# EAGLE library part CL-SB-23B-01T (library CL-SB-23B-01T)
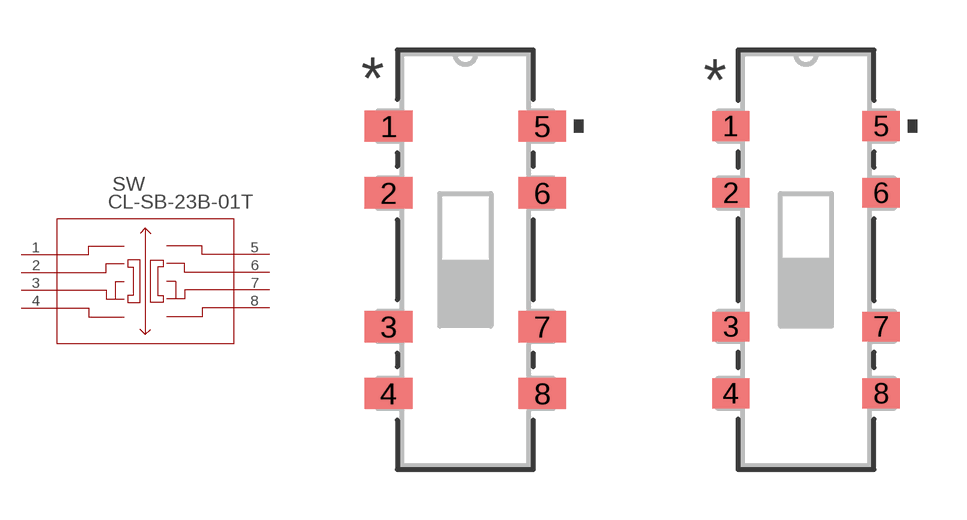
[diagram p0: symbol with the pads of CL-SB-23B_NDC; footprints CL-SB-23B_NDC, CL-SB-23B_NDC-L]

Designator prefix SW

## CL-SB-23B-01T (COPYRIGHT: Copyright (C) 2024 Ultra Librarian. All rights reserved.; MANUFACTURER_PART_NUMBER: CL-SB-23B-01T; MFR_NAME: Nidec Copal Electronics)  [CL-SB-23B_NDC]
1  1  pas
2  2  pas
3  3  pas
4  4  pas
5  8  pas
6  7  pas
7  6  pas
8  5  pas

## CL-SB-23B-01TCL-SB-23B_NDC-L (COPYRIGHT: Copyright (C) 2024 Ultra Librarian. All rights reserved.; MANUFACTURER_PART_NUMBER: CL-SB-23B-01T; MFR_NAME: Nidec Copal Electronics)  [CL-SB-23B_NDC-L]
1  1  pas
2  2  pas
3  3  pas
4  4  pas
5  5  pas
6  6  pas
7  7  pas
8  8  pas

## CL-SB-23B-01TCL-SB-23B_NDC-M (COPYRIGHT: Copyright (C) 2024 Ultra Librarian. All rights reserved.; MANUFACTURER_PART_NUMBER: CL-SB-23B-01T; MFR_NAME: Nidec Copal Electronics)  [CL-SB-23B_NDC-M]
Pads as for CL-SB-23B_NDC-L

## Footprint CL-SB-23B_NDC (pad centres in mm)
smd 1.422 x 0.94: 1 -2.299,4; 2 -2.299,2; 3 -2.299,-2; 4 -2.299,-4; 5 2.299,4; 6 2.299,2; 7 2.299,-2; 8 2.299,-4

## Footprint CL-SB-23B_NDC-L (pad centres in mm)
smd 1.118 x 0.889: 1 -2.248,4; 2 -2.248,2; 3 -2.248,-2; 4 -2.248,-4; 5 2.248,4; 6 2.248,2; 7 2.248,-2; 8 2.248,-4

## Footprint CL-SB-23B_NDC-M (pad centres in mm)
smd 1.727 x 0.991: 1 -2.349,4; 2 -2.349,2; 3 -2.349,-2; 4 -2.349,-4; 5 2.349,4; 6 2.349,2; 7 2.349,-2; 8 2.349,-4